# Altium schematic symbol library PicoBlade 12 pin Vert.SchLib: 1 symbol
Pins are listed as number, name and electrical type; pins without a type are passive.

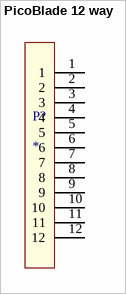
[diagram p0: symbol PicoBlade 12 way]

## PicoBlade 12 way
designator P?
footprint P? (PicoBlade connector RA 12 way)
pins: 1, 2, 3, 4, 5, 6, 7, 8, 9, 10, 11, 12